# EAGLE library part BATTERY_BUZZER (library scono)
8 Cell Battery Buzzer Similar to https://hobbyking.com/en_us/hobbykingtm-lipo-voltage-checker-2s-8s.html
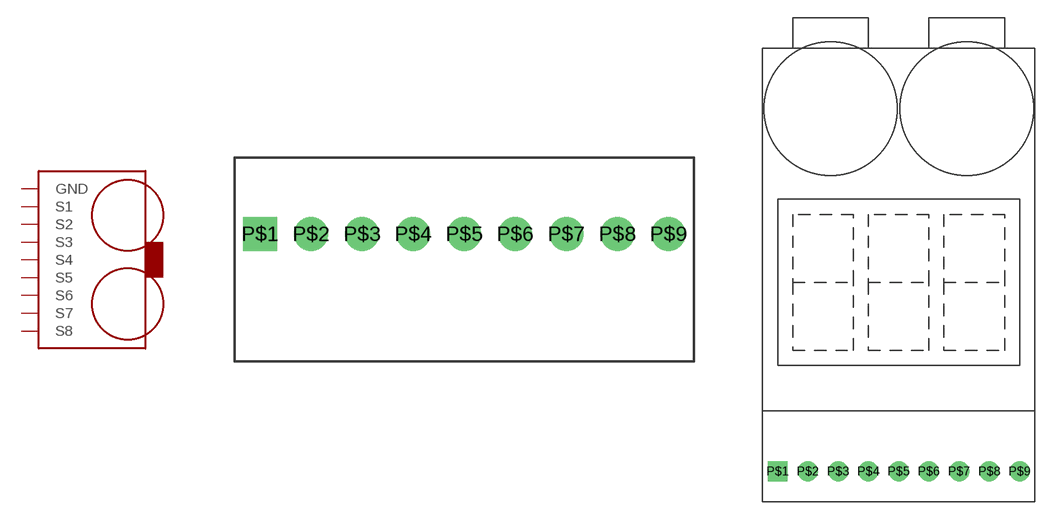
[diagram p11: symbol with the pads of 8S_BUZZER_VERT; footprints 8S_BUZZER_VERT, 8S_BUZZER_HORIZ]

Designator prefix -

## BATTERY_BUZZERVERT  [8S_BUZZER_VERT]
P$1  GND
P$2  S1
P$3  S2
P$4  S3
P$5  S4
P$6  S5
P$7  S6
P$8  S7
P$9  S8

## BATTERY_BUZZERHORIZ  [8S_BUZZER_HORIZ]
Pads as for 8S_BUZZER_VERT

## Footprint 8S_BUZZER_VERT (pad centres in mm)
8 Cell COTS Battery Buzzer - Vertical
drill 1 pad 1.676 square: P$1 -10.16,0
drill 1 pad 1.676: P$2 -7.62,0; P$3 -5.08,0; P$4 -2.54,0; P$5 0,0; P$6 2.54,0; P$7 5.08,0; P$8 7.62,0; P$9 10.16,0

## Footprint 8S_BUZZER_HORIZ (pad centres in mm)
8 Cell COTS Battery Buzzer - Horizontal. With use for https://www.digikey.com/product-detail/en/sullins-connector-solutions/PPTC091LGBN-RC/S5445-ND/775903 or similar header.
drill 1 pad 1.676 square: P$1 -10.16,2.54
drill 1 pad 1.676: P$2 -7.62,2.54; P$3 -5.08,2.54; P$4 -2.54,2.54; P$5 0,2.54; P$6 2.54,2.54; P$7 5.08,2.54; P$8 7.62,2.54; P$9 10.16,2.54